# EAGLE library part DS05E (library Switch)
DIL/CODE SWITCH
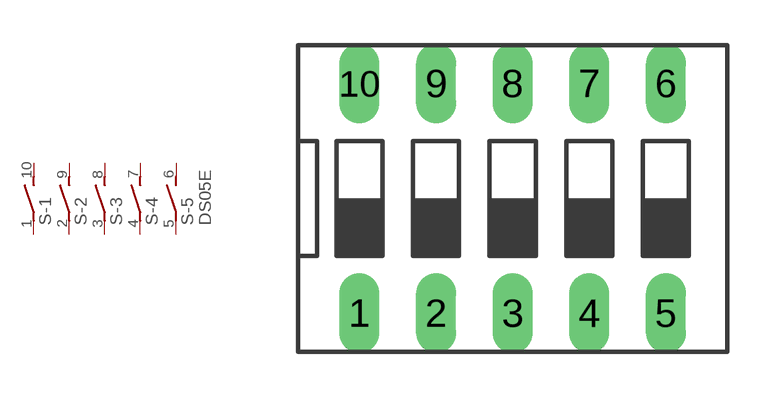
[diagram p4: symbol with the pads of DS-05; footprint DS-05]

Designator prefix S; gates -1=S-6 -2=S-6 -3=S-6 -4=S-6 -5=S+V-7

## DS05E (CATEGORY: SWITCH; TYPE: SPST)  [DS-05]
1  -1:1  pas
2  -2:1  pas
3  -3:1  pas
4  -4:1  pas
5  -5:1  pas
6  -5:2  pas
7  -4:2  pas
8  -3:2  pas
9  -2:2  pas
10  -1:2  pas

## Footprint DS-05 (pad centres in mm)
DIL/CODE SWITCH Mors distributor Buerklin, 17G556
drill 0.813 long: 1 -5.08,-3.81; 2 -2.54,-3.81; 3 0,-3.81; 4 2.54,-3.81; 5 5.08,-3.81; 6 5.08,3.81; 7 2.54,3.81; 8 0,3.81; 9 -2.54,3.81; 10 -5.08,3.81